# Altium schematic symbol library Buck_Boost_1.SCHLIB: 47 symbols
Pins are listed as number, name and electrical type; pins without a type are passive.

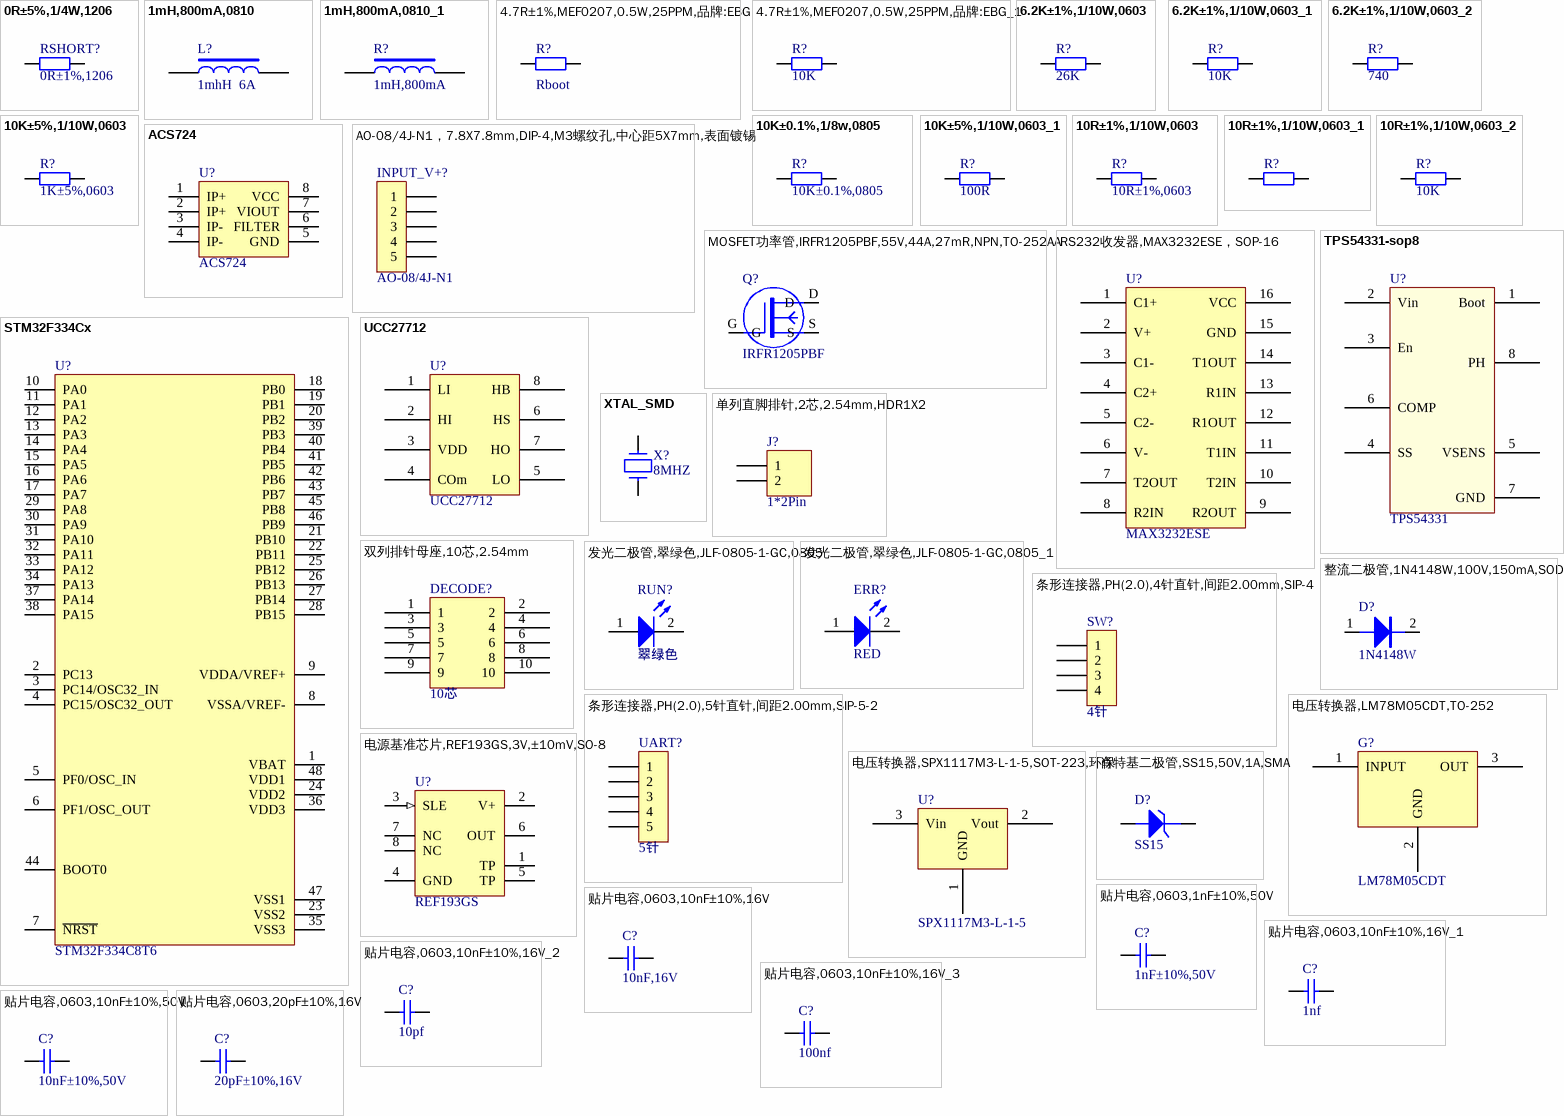
[diagram p0: symbols 0R±5%,1/4W,1206 to 贴片电容,0603,20pF±10%,16V]

## 0R±5%,1/4W,1206
designator RSHORT?, comment 0R±1%,1206
贴片电阻; 物料代码: 1.01.11.0000030000
footprint 1206 (Chip Resistor; Body 3.2 x 1.6 mm (LxW typ))
pins: 1, 2

## 1mH,800mA,0810
designator L?, comment 1mhH  6A
贴片电感; 物料代码: 1.05.01.0100000000
footprint 1770-inductor
pins: 1, 2

## 1mH,800mA,0810_1
designator R?, comment 1mH,800mA
贴片电感; 物料代码: 1.05.01.0100000000
footprint 0603_induct
pins: 1, 2

## 4.7R±1%,MEF0207,0.5W,25PPM,品牌:EBG
designator R?, comment Rboot
圆柱形精密贴片电阻; 物料代码: 1.01.11.0478250000
footprint 0805r
pins: 1, 2

## 4.7R±1%,MEF0207,0.5W,25PPM,品牌:EBG_1
designator R?, comment 10K
圆柱形精密贴片电阻; 物料代码: 1.01.11.0478250000
footprint 0805R
pins: 1, 2

## 6.2K±1%,1/10W,0603
designator R?, comment 26K
贴片电阻; 物料代码: 1.01.11.6201010000
footprint 0603 (SMD0603)
pins: 1, 2

## 6.2K±1%,1/10W,0603_1
designator R?, comment 10K
贴片电阻; 物料代码: 1.01.11.6201010000
footprint 0603 (SMD0603)
pins: 1, 2

## 6.2K±1%,1/10W,0603_2
designator R?, comment 740
贴片电阻; 物料代码: 1.01.11.6201010000
footprint 0603 (SMD0603)
pins: 1, 2

## 10K±0.1%,1/8w,0805
designator R?, comment 10K±0.1%,0805
贴片电阻; 物料代码: 1.01.11.1002020020
footprint 0805r
pins: 1, 2

## 10K±5%,1/10W,0603
designator R?, comment 1K±5%,0603
贴片电阻; 物料代码: 1.01.11.0103010000
footprint 0603 (SMD0603)
pins: 1, 2

## 10K±5%,1/10W,0603_1
designator R?, comment 100R
贴片电阻; 物料代码: 1.01.11.0103010000
footprint 0603 (SMD0603)
pins: 1, 2

## 10R±1%,1/10W,0603
designator R?, comment 10R±1%,0603
贴片电阻; 物料代码: 1.01.11.0100010000
footprint 0603 (SMD0603)
pins: 1, 2

## 10R±1%,1/10W,0603_1
designator R?
贴片电阻; 物料代码: 1.01.11.0100010000
footprint 0603 (SMD0603)
pins: 1, 2

## 10R±1%,1/10W,0603_2
designator R?, comment 10K
贴片电阻; 物料代码: 1.01.11.0100010000
footprint 0603 (SMD0603)
pins: 1, 2

## ACS724
designator U?
电流传感器; 物料代码: 1.04.01.0725200000
footprint SOIC-8
pins: 1 IP+, 2 IP+, 3 IP-, 4 IP-, 5 GND, 6 FILTER, 7 VIOUT, 8 VCC

## AO-08/4J-N1，7.8X7.8mm,DIP-4,M3螺纹孔,中心距5X7mm,表面镀锡
designator INPUT_V+?, comment AO-08/4J-N1
PCB接线端子; 物料代码: 1.06.99.2608410000
footprint A076
pins: 1, 2, 3, 4, 5

## MOSFET功率管,IRFR1205PBF,55V,44A,27mR,NPN,TO-252AA
designator Q?, comment IRFR1205PBF
MOSFET功率管; 物料代码: 1.03.07.1120500000
footprint TO-252AA
pins: D, G, S

## RS232收发器,MAX3232ESE，SOP-16
designator U?, comment MAX3232ESE
RS232收发器; 物料代码: 1.04.06.0323200010
footprint SOP-16
pins: 1 C1+, 2 V+, 3 C1-, 4 C2+, 5 C2-, 6 V-, 7 T2OUT, 8 R2IN, 9 R2OUT, 10 T2IN, 11 T1IN, 12 R1OUT, 13 R1IN, 14 T1OUT, 15 GND, 16 VCC

## STM32F334Cx
designator U?, comment STM32F334C8T6
STM32F334Cx
footprint LQFP48_L (Thin QFP, 48-Leads, Body 7x7mm, Pitch 0.5mm, IPC High Density)
footprint LQFP48_M (Thin QFP, 48-Leads, Body 7x7mm, Pitch 0.5mm, IPC Low Density)
pins: 1 VBAT, 2 PC13, 3 PC14/OSC32_IN, 4 PC15/OSC32_OUT, 5 PF0/OSC_IN, 6 PF1/OSC_OUT, 7 ~{NRST}, 8 VSSA/VREF-, 9 VDDA/VREF+, 10 PA0, 11 PA1, 12 PA2, 13 PA3, 14 PA4, 15 PA5, 16 PA6, 17 PA7, 18 PB0, 19 PB1, 20 PB2, 21 PB10, 22 PB11, 23 VSS2, 24 VDD2, 25 PB12, 26 PB13, 27 PB14, 28 PB15, 29 PA8, 30 PA9, 31 PA10, 32 PA11, 33 PA12, 34 PA13, 35 VSS3, 36 VDD3, 37 PA14, 38 PA15, 39 PB3, 40 PB4, 41 PB5, 42 PB6, 43 PB7, 44 BOOT0, 45 PB8, 46 PB9, 47 VSS1, 48 VDD1

## TPS54331-sop8
designator U?, comment TPS54331
footprint SOIC-8
pins: 1 Boot, 2 Vin, 3 En, 4 SS, 5 VSENS, 6 COMP, 7 GND, 8 PH

## UCC27712
designator U?
footprint SOIC-8
pins: 1 LI, 2 HI, 3 VDD, 4 COm, 5 LO, 6 HS, 7 HO, 8 HB

## XTAL_SMD
designator X?, comment 8MHZ
footprint 5032 (5.0mm*3.2mm*1.5mm)
pins: 1, 2

## 单列直脚排针,2芯,2.54mm,HDR1X2
designator J?, comment 1*2Pin
单列直脚排针; 物料代码: 1.06.99.2620000000
footprint HDR1X2 (Connector; Header; 2 Position)
pins: 1, 2
2 alternate drawings of the same symbol

## 双列排针母座,10芯,2.54mm
designator DECODE?, comment 10芯
双列排针母座; 物料代码: 1.06.99.2610000040
footprint IDC-10
pins: 1, 2, 3, 4, 5, 6, 7, 8, 9, 10

## 发光二极管,翠绿色,JLF-0805-1-GC,0805
designator RUN?, comment 翠绿色
发光二极管; 物料代码: 1.03.04.0080510000
footprint 0805LED
pins: 1 A, 2 K

## 发光二极管,翠绿色,JLF-0805-1-GC,0805_1
designator ERR?, comment RED
发光二极管; 物料代码: 1.03.04.0080510000
footprint 0805LED
pins: 1 A, 2 K

## 整流二极管,1N4148W,100V,150mA,SOD-123
designator D?, comment 1N4148W
整流二极管; 物料代码: 1.03.01.0414800020
footprint SOD-123
pins: 1 A, 2 K

## 条形连接器,PH(2.0),4针直针,间距2.00mm,SIP-4
designator SW?, comment 4针
条形连接器; 物料代码: 1.06.99.2200000010
footprint SIP-4 (Footprint not found)
pins: 1, 2, 3, 4

## 条形连接器,PH(2.0),5针直针,间距2.00mm,SIP-5-2
designator UART?, comment 5针
条形连接器; 物料代码: 1.06.99.2220500000
footprint SIP-5-2
pins: 1, 2, 3, 4, 5

## 电压转换器,LM78M05CDT,TO-252
designator G?, comment LM78M05CDT
电压转换器; 物料代码: 1.04.08.0780500000
footprint TO-252 (D-PAK, 3-Pads, Body 5.6x6.5mm (max), IPC Medium Density)
pins: 1 INPUT, 2 GND, 3 OUT

## 电压转换器,SPX1117M3-L-1-5,SOT-223,环保
designator U?, comment SPX1117M3-L-1-5
电压转换器; 物料代码: 1.04.11.0111731011
footprint SOT-223 (电源芯片-AS1117M3-X)
pins: 1 GND, 2 Vout, 3 Vin
2 alternate drawings of the same symbol

## 电源基准芯片,REF193GS,3V,±10mV,SO-8
designator U?, comment REF193GS
电源基准芯片; 物料代码: 1.04.11.0193000000
footprint SO-8
pins: 1 TP, 2 V+ (power), 3 SLE (in), 4 GND (power), 5 TP, 6 OUT (power), 7 NC, 8 NC

## 肖特基二极管,SS15,50V,1A,SMA
designator D?, comment SS15
肖特基二极管; 物料代码: 1.03.01.0150000000
footprint SMA
pins: 1 A, 2 K

## 贴片电容,0603,1nF±10%,50V
designator C?, comment 1nF±10%,50V
贴片电容; 物料代码: 1.02.15.0010206030
footprint 0603 (SMD0603)
pins: 1, 2

## 贴片电容,0603,10nF±10%,16V
designator C?, comment 10nF,16V
贴片电容; 物料代码: 1.02.15.0010302000
footprint 0603 (SMD0603)
pins: 1, 2

## 贴片电容,0603,10nF±10%,16V_1
designator C?, comment 1nf
贴片电容; 物料代码: 1.02.15.0010302000
footprint 0603 (SMD0603)
pins: 1, 2

## 贴片电容,0603,10nF±10%,16V_2
designator C?, comment 10pf
贴片电容; 物料代码: 1.02.15.0010302000
footprint 0603 (SMD0603)
pins: 1, 2

## 贴片电容,0603,10nF±10%,16V_3
designator C?, comment 100nf
贴片电容; 物料代码: 1.02.15.0010302000
footprint 0603 (SMD0603)
pins: 1, 2

## 贴片电容,0603,10nF±10%,50V
designator C?, comment 10nF±10%,50V
贴片电容; 物料代码: 1.02.15.0010306020
footprint 0603 (SMD0603)
pins: 1, 2

## 贴片电容,0603,20pF±10%,16V
designator C?, comment 20pF±10%,16V
贴片电容; 物料代码: 1.02.15.0020002000
footprint 0603 (SMD0603)
pins: 1, 2

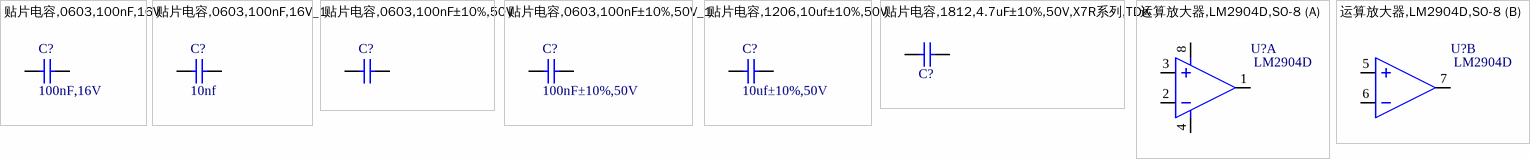
[diagram p1: symbols 贴片电容,0603,100nF,16V to 运算放大器,LM2904D,SO-8]

## 贴片电容,0603,100nF,16V
designator C?, comment 100nF,16V
贴片电容; 物料代码: 1.02.15.0010402010
footprint 0603 (SMD0603)
pins: 1, 2

## 贴片电容,0603,100nF,16V_1
designator C?, comment 10nf
贴片电容; 物料代码: 1.02.15.0010402010
footprint 0603 (SMD0603)
pins: 1, 2

## 贴片电容,0603,100nF±10%,50V
designator C?
贴片电容; 物料代码: 1.02.15.0010406040
footprint 0603 (SMD0603)
pins: 1, 2

## 贴片电容,0603,100nF±10%,50V_1
designator C?, comment 100nF±10%,50V
贴片电容; 物料代码: 1.02.15.0010406040
footprint 0603 (SMD0603)
pins: 1, 2

## 贴片电容,1206,10uf±10%,50V
designator C?, comment 10uf±10%,50V
贴片电容; 物料代码: 1.02.15.0010606010
footprint 1206
pins: 1, 2

## 贴片电容,1812,4.7uF±10%,50V,X7R系列,TDK
designator C?, comment 4.7uF±10%,50V  (value not drawn)
贴片电容; 物料代码: 1.02.15.0047506000
footprint 1812 (Chip Capacitor; Body 4.5 x 3.2 mm (LxW typ))
pins: 1, 2

## 运算放大器,LM2904D,SO-8
designator U?, comment LM2904D
运算放大器; 物料代码: 1.04.07.0290400000
footprint SO-8
part A pins: 1, 2, 3, 4, 8
part B pins: 5, 6, 7
2 alternate drawings of the same symbol